# Altium footprint library CR2032.PcbLib: 2 footprints
Each footprint in its own frame and in the unit in brackets; x right, y up, seen from the top. Pads: shape width x height; smd on the part's side, far side on the other; paste and mask are expansions set on the pad; w line width, h text height; cw(c..) or ccw(c..) is an arc to the next point about the centre after c.
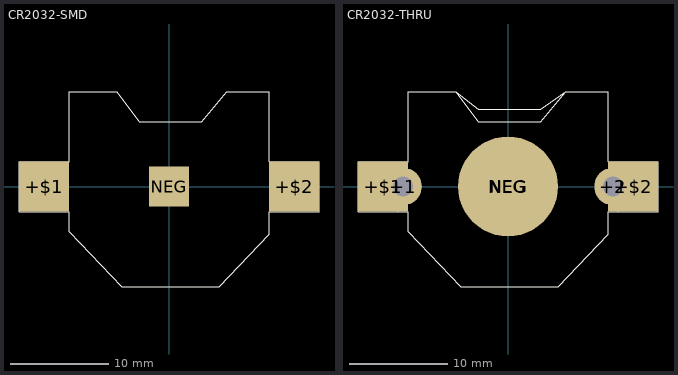
[diagram p0: the footprints below, top view; thin cyan lines are the x and y axes]

## CR2032-SMD [mil]
pads (3):
  rect 200x200 smd: +$1(-500,0) +$2(500,0)
  rect 160x160 smd: NEG(0,0)
Top Overlay:
  circle w5: c-510,0 r36.06
  circle w5: c500,10 r36.06
  lines w5: -600,-100 -400,-100 -400,-180 -190,-400 200,-400 400,-190 400,-100 600,-100 600,100 400,100 400,380 230,380 130,260 -120,260 -210,380 -400,380 -400,100 -600,100 -600,-100
Top Solder:
  region: 18.54,353.85 37.04,352.39 55.43,349.97 73.67,346.59 91.71,342.26 109.49,336.99 126.98,330.8 144.12,323.7 160.86,315.71 177.17,306.86 192.98,297.17 208.27,286.66 222.99,275.37 237.09,263.32 250.55,250.55 263.32,237.09 275.37,222.99 286.66,208.27 297.17,192.98 306.86,177.17 315.71,160.86 323.7,144.12 330.8,126.98 336.99,109.49 342.26,91.71 346.59,73.67 349.97,55.43 352.39,37.04 353.85,18.54 354.33,0 353.85,-18.54 352.39,-37.04 349.97,-55.43 346.59,-73.67 342.26,-91.71 336.99,-109.49 330.8,-126.98 323.7,-144.12 315.71,-160.86 306.86,-177.17 297.17,-192.98 286.66,-208.27 275.37,-222.99 263.32,-237.09 250.55,-250.55 237.09,-263.32 222.99,-275.37 208.27,-286.66 192.98,-297.17 177.17,-306.86 160.86,-315.71 144.12,-323.7 126.98,-330.8 109.49,-336.99 91.71,-342.26 73.67,-346.59 55.43,-349.97 37.04,-352.39 18.54,-353.85 0,-354.33 -18.54,-353.85 -37.04,-352.39 -55.43,-349.97 -73.67,-346.59 -91.71,-342.26 -109.49,-336.99 -126.98,-330.8 -144.12,-323.7 -160.86,-315.71 -177.17,-306.86 -192.98,-297.17 -208.27,-286.66 -222.99,-275.37 -237.09,-263.32 -250.55,-250.55 -263.32,-237.09 -275.37,-222.99 -286.66,-208.27 -297.17,-192.98 -306.86,-177.17 -315.71,-160.86 -323.7,-144.12 -330.8,-126.98 -336.99,-109.49 -342.26,-91.71 -346.59,-73.67 -349.97,-55.43 -352.39,-37.04 -353.85,-18.54 -354.33,0 -353.85,18.54 -352.39,37.04 -349.97,55.43 -346.59,73.67 -342.26,91.71 -336.99,109.49 -330.8,126.98 -323.7,144.12 -315.71,160.86 -306.86,177.17 -297.17,192.98 -286.66,208.27 -275.37,222.99 -263.32,237.09 -250.55,250.55 -237.09,263.32 -222.99,275.37 -208.27,286.66 -192.98,297.17 -177.17,306.86 -160.86,315.71 -144.12,323.7 -126.98,330.8 -109.49,336.99 -91.71,342.26 -73.67,346.59 -55.43,349.97 -37.04,352.39 -18.54,353.85 0,354.33

## CR2032-THRU [mil]
pads (6):
  round 150 hole 78.74: +1(-420,0) +2(420,0)
  rect 200x200 smd: +$1(-500,0) +$2(500,0)
  round 400 smd: NEG(0,0)
  rect 160x160 smd: NEG(0,0)
Top Overlay:
  circle w5: c500,10 r36.06
  circle w5: c-510,0 r36.06
  lines w5: -400,-180 -190,-400 ; -400,-180 -400,-100 ; -400,-180 -190,-400 ; -400,-180 -400,-100 ; -400,-100 -440,-100 -440,100 -400,100 ; -400,-100 -600,-100 -600,100 -400,100 ; -400,100 -400,380 ; -400,100 -400,380 ; -400,380 -210,380 ; -400,380 -210,380 ; -210,380 -120,310 130,310 230,380 ; -210,380 -120,260 130,260 230,380 ; -190,-400 200,-400 ; -190,-400 200,-400 ; 200,-400 400,-190 ; 200,-400 400,-190 ; 230,380 400,380 ; 230,380 400,380 ; 400,-190 400,-100 ; 400,-190 400,-100 ; 400,-100 440,-100 440,100 400,100 ; 400,-100 600,-100 600,100 400,100 ; 400,100 400,380 ; 400,100 400,380
Top Solder:
  drawing of 2 lines, arcs and shapes, not listed